# Altium footprint library Dwl-Altium-PCB-Footprint-Library.pcblib: 4 footprints
Each footprint in its own frame and in the unit in brackets; x right, y up, seen from the top. Pads: shape width x height; smd on the part's side, far side on the other; paste and mask are expansions set on the pad; w line width, h text height; cw(c..) or ccw(c..) is an arc to the next point about the centre after c.
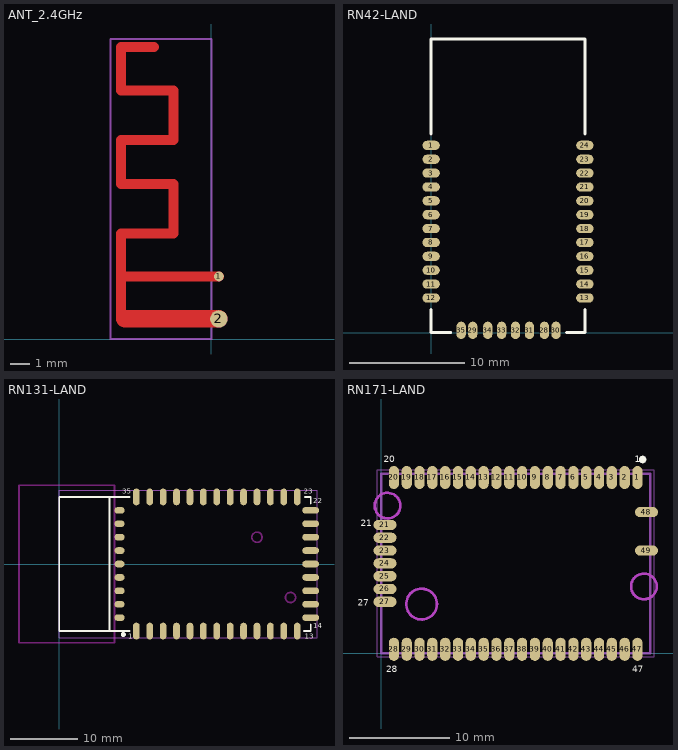
[diagram p0: the footprints below, top view; thin cyan lines are the x and y axes]

## ANT_2.4GHz [mil] "2.4GHz Inverted F Antenna"
pads (2):
  round 19.68 smd: 1(15,125)
  round 35 smd: 2(15,40)
Top Layer:
  lines w20: -180,40 -180,211 -76,211 -76,309.5 -180,309.5 ; -180,310 -180,397 -76,397 -76,495.5 ; -178,125 15,125 ; -115,583 -180,583 -180,496 -76,496
  lines w35: -172.5,40 15,40
Mechanical 15:
  lines w4: 0,598.43 0,0 -201.81,0 -201.81,598.74 0,598.74

## RN42-LAND [mm] "RN42 Footprint"
height 2.1
pads (32):
  oval 1.5x0.8 smd: 1(0,16.2) 2(0,15) 3(0,13.8) 4(0,12.6) 5(0,11.4) 6(0,10.2) 7(0,9) 8(0,7.8) 9(0,6.6) 10(0,5.4) 11(0,4.2) 12(0,3) 13(13.3,3) 14(13.3,4.2) 15(13.3,5.4) 16(13.3,6.6) 17(13.3,7.8) 18(13.3,9) 19(13.3,10.2) 20(13.3,11.4) 21(13.3,12.6) 22(13.3,13.8) 23(13.3,15) 24(13.3,16.2)
  oval 0.8x1.5 smd: 28(9.8,0.2) 29(3.6,0.2) 30(10.8,0.2) 31(8.5,0.2) 32(7.3,0.2) 33(6.1,0.2) 34(4.9,0.2) 35(2.6,0.2)
Top Overlay:
  lines w0.254: 0,2 0,0 1.7,0 ; 0,17.2 0,25.4 13.3,25.4 13.3,17.2 ; 11.7,0 13.3,0 13.3,2

## RN131-LAND [mm] "RN131 Landing Pads"
height 4.064
pads (45):
  oval 1x2.5 smd: 1(11.5,-10) 2(13.5,-10) 3(15.5,-10) 4(17.5,-10) 5(19.5,-10) 6(21.5,-10) 7(23.5,-10) 8(25.5,-10) 9(27.5,-10) 10(29.5,-10) 11(31.5,-10) 12(33.5,-10) 13(35.5,-10) 23(35.5,10) 24(33.5,10) 25(31.5,10) 26(29.5,10) 27(27.5,10) 28(25.5,10) 29(23.5,10) 30(21.5,10) 31(19.5,10) 32(17.5,10) 33(15.5,10) 34(13.5,10) 35(11.5,10)
  oval 2.5x1 smd: 14(37.5,-8) 15(37.5,-6) 16(37.5,-4) 17(37.5,-2) 18(37.5,0) 19(37.5,2) 20(37.5,4) 21(37.5,6) 22(37.5,8)
  oval 1.5x1 smd: 36(9,8) 37(9,6) 38(9,4) 39(9,2) 40(9,0) 41(9,-2) 42(9,-4) 43(9,-6) 44(9,-8)
  round 0.762 on Top Overlay: ""(9.56,-10.508)
Top Layer keep-out:
  circle w0.254: c34.503,-4.996 r0.762
  circle w0.254: c29.499,3.995 r0.762
Top Overlay:
  lines w0.254: 7.5,-10 7.5,10 ; 8.625,-10 10.5,-10 ; 9,-10 0,-10 0,10 10.5,10 ; 36.5,-10 37.5,-10 37.5,-9 ; 36.625,10 37.5,10 37.5,9
  text "1" at 10.322,-11.143 h0.76
  text "13" at 36.611,-11.143 h0.76
  text "14" at 37.881,-9.619 h0.76
  text "22" at 37.881,9.05 h0.76
  text "23" at 36.484,10.447 h0.76
  text "35" at 9.433,10.447 h0.76
Keep-Out Layer:
  lines w0.254: -6,-11.75 -6,11.75 8.25,11.75 8.25,-11.75 -6,-11.75
  text "Free of all metal" at -1.75,-9 h1.52
Mechanical 15:
  lines w0.1: 0,-11 0,11 38.5,11 38.5,-11 0,-11
Multi-Layer:
  pour cut-out: -6,11.75 8.25,11.75 8.25,-11.75 -6,-11.75
3D body: height 3.5, standoff 0, extent 0,-10 37.5,10

## RN171-LAND [mil] "RN171 Landing Pads"
height 100
pads (50):
  oval 40x90 smd: 1(1000,685) 2(950,685) 3(900,685) 4(850,685) 5(800,685) 6(750,685) 7(700,685) 8(650,685) 9(600,685) 10(550,685) 11(500,685) 12(450,685) 13(400,685) 14(350,685) 15(300,685) 16(250,685) 17(200,685) 18(150,685) 19(100,685) 20(50,685) 28(50,15) 29(100,15) 30(150,15) 31(200,15) 32(250,15) 33(300,15) 34(350,15) 35(400,15) 36(450,15) 37(500,15) 38(550,15) 39(600,15) 40(650,15) 41(700,15) 42(750,15) 43(800,15) 44(850,15) 45(900,15) 46(950,15) 47(1000,15)
  oval 90x40 smd: 21(15,500) 22(15,450) 23(15,400) 24(15,350) 25(15,300) 26(15,250) 27(15,200) 48(1035,550) 49(1035,400)
  round 30 on Top Overlay: ""(1020,755)
Top Overlay:
  text "21" at -80,495 h25
  text "20" at 10,745 h25
  text "1" at 990,745 h25
  text "27" at -90,185 h25
  text "47" at 980,-75 h25
  text "28" at 20,-75 h25
Mechanical 13:
  lines w10: 0,0 1050,0 1050,700 0,700 0,0
  text "Keepout" at 975,191 h10
  text "Keepout" at 125,115 h10
  text "Keepout" at 85,545 h10
Mechanical 13 keep-out:
  circle w10: c1025,260 r50
  circle w10: c25,575 r50
  circle w10: c158,191 r60
Mechanical 15:
  lines w4: -15,-15 -15,715 1065,715 1065,-15 -15,-15